# Altium footprint library INTAN_AFE_V003.PcbLib: 77 footprints (part 1 of 5)
Each footprint in its own frame and in the unit in brackets; x right, y up, seen from the top. Pads: shape width x height; smd on the part's side, far side on the other; paste and mask are expansions set on the pad; w line width, h text height; cw(c..) or ccw(c..) is an arc to the next point about the centre after c.
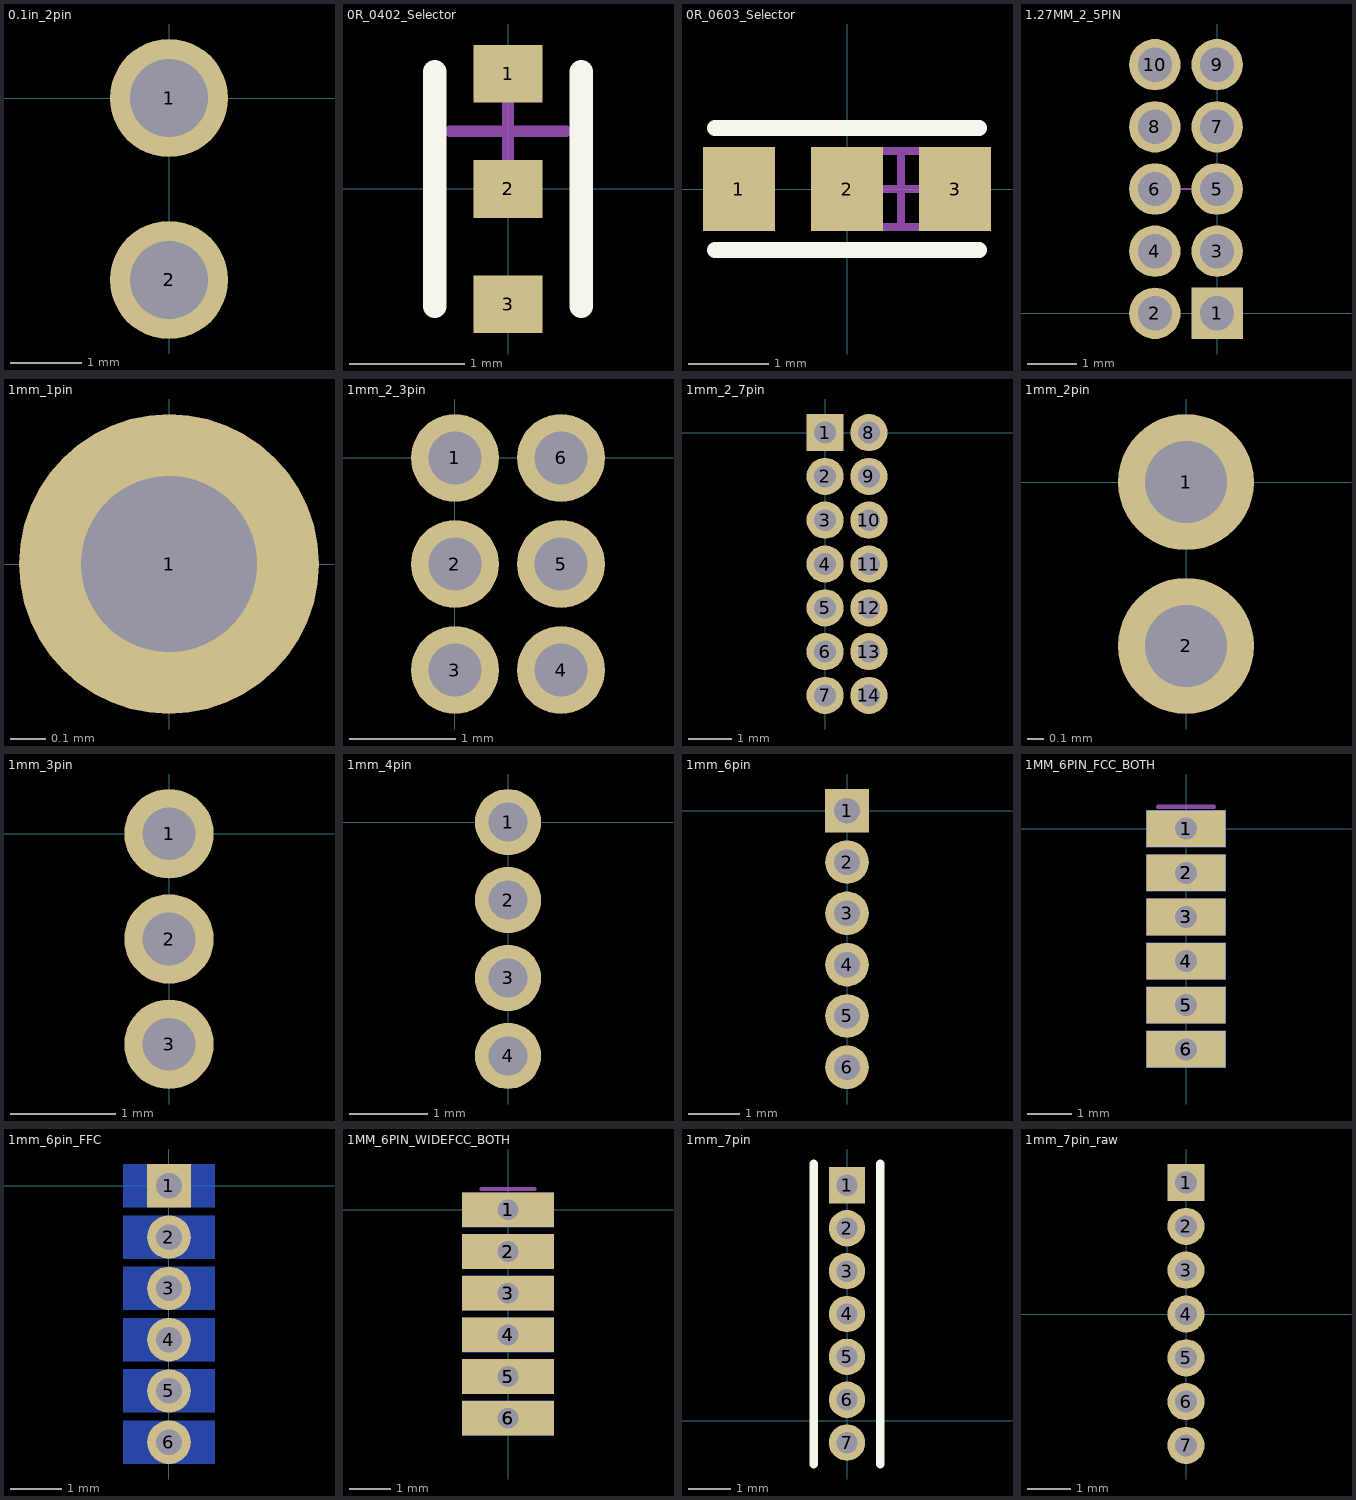
[diagram p0: the footprints below, top view; thin cyan lines are the x and y axes]

## 0.1in_2pin [mil]
pads (2):
  round 65 hole 43: 1(0,0) 2(0,-100)

## 0R_0402_Selector [mm]
pads (3):
  rect 0.6x0.5 smd paste+0 mask+0: 1(0,1) 2(0,0) 3(0,-1)
Top Overlay:
  lines w0.2: -0.635,-1.016 -0.635,1.016 ; 0.635,-1.016 0.635,1.016
Top Assembly:
  text ".Designator" at -0.188,0.5 h1
Top Component Center:
  lines w0.1: -0.5,0.5 0.5,0.5 ; 0,0 0,1
3D body "Res_Stackpole_Electronics_RMCF0402FT1K00_eec.STEP": height 0.25, standoff 0, extent -0.4,-1.358 0.4,0.342

## 0R_0603_Selector [mm]
pads (3):
  rect 0.9x1.05 smd: 1(-1.35,0) 2(0,0) 3(1.35,0)
Top Overlay:
  lines w0.203: -1.651,-0.762 1.651,-0.762 ; -1.651,0.762 1.651,0.762
Top 3D Body:
  lines w0.1: -0.15,-0.475 1.5,-0.475 1.5,0.475 -0.15,0.475 -0.15,-0.475
Top Courtyard:
  lines w0.1: 0.2,0 1.15,0 ; 0.675,-0.475 0.675,0.475
3D body: height 0.5, standoff 0, extent 1.2,-0.475 1.5,0.475
3D body: height 0.5, standoff 0, extent -0.15,-0.475 0.15,0.475
3D body: height 0.5, standoff 0, extent 0.15,-0.475 1.2,0.475

## 1.27MM_2_5PIN [mm]
pads (10):
  rect 1.05x1.05 hole 0.7: 1(0,0)
  round 1.05 hole 0.7: 2(-1.27,0) 3(0,1.27) 4(-1.27,1.27) 5(0,2.54) 6(-1.27,2.54) 7(0,3.81) 8(-1.27,3.81) 9(0,5.08) 10(-1.27,5.08)
Top Courtyard:
  lines w0.05: -1.135,2.54 -0.135,2.54

## 1mm_1pin [mm]
pads (1):
  round 0.85 hole 0.5: 1(0,0)

## 1mm_2_3pin [mm]
pads (6):
  round 0.83 hole 0.5: 1(0,0) 2(0,-1) 3(0,-2) 4(1,-2) 5(1,-1) 6(1,0)

## 1mm_2_7pin [mm]
pads (14):
  rect 0.85x0.85 hole 0.5: 1(0,0)
  round 0.85 hole 0.5: 2(0,-1) 3(0,-2) 4(0,-3) 5(0,-4) 6(0,-5) 7(0,-6) 8(1,0) 9(1,-1) 10(1,-2) 11(1,-3) 12(1,-4) 13(1,-5) 14(1,-6)

## 1mm_2pin [mm]
pads (2):
  round 0.83 hole 0.5: 1(0,0) 2(0,-1)

## 1mm_3pin [mm]
pads (3):
  round 0.85 hole 0.5: 1(0,0) 2(0,-1) 3(0,-2)

## 1mm_4pin [mm]
pads (4):
  round 0.85 hole 0.5: 1(0,0) 2(0,-1) 3(0,-2) 4(0,-3)

## 1mm_6pin [mm]
pads (6):
  rect 0.85x0.85 hole 0.5: 1(0,0)
  round 0.85 hole 0.5: 2(0,-1) 3(0,-2) 4(0,-3) 5(0,-4) 6(0,-5)

## 1MM_6PIN_FCC_BOTH [mm]
pads (18):
  rect 1.8x0.83 smd: 1(0,0) 2(0,-1) 3(0,-2) 4(0,-3) 5(0,-4) 6(0,-5)
  rect 1.8x0.83 smd far side: 1(0,0) 2(0,-1) 3(0,-2) 4(0,-3) 5(0,-4) 6(0,-5)
  rect 0.83x0.83 hole 0.5: 1(0,0)
  round 0.83 hole 0.5: 2(0,-1) 3(0,-2) 4(0,-3) 5(0,-4) 6(0,-5)
Top 3D Body:
  lines w0.1: -0.635,0.5 0.635,0.5

## 1mm_6pin_FFC [mm]
pads (6):
  rect 0.85x0.85 hole 0.5: 1(0,0)
  round 0.85 hole 0.5: 2(0,-1) 3(0,-2) 4(0,-3) 5(0,-4) 6(0,-5)
Bottom Layer:
  rectangle: -0.9,-0.425 0.9,0.426
  rectangle: -0.9,-1.425 0.9,-0.574
  rectangle: -0.9,-2.425 0.9,-1.575
  rectangle: -0.9,-3.425 0.9,-2.575
  rectangle: -0.9,-4.425 0.9,-3.575
  rectangle: -0.9,-5.425 0.9,-4.574

## 1MM_6PIN_WIDEFCC_BOTH [mm]
pads (18):
  rect 0.83x0.83 hole 0.5: 1(0,0)
  rect 2.2x0.83 smd far side: 1(0,0) 2(0,-1) 3(0,-2) 4(0,-3) 5(0,-4) 6(0,-5)
  rect 2.2x0.83 smd: 1(0,0) 2(0,-1) 3(0,-2) 4(0,-3) 5(0,-4) 6(0,-5)
  round 0.83 hole 0.5: 2(0,-1) 3(0,-2) 4(0,-3) 5(0,-4) 6(0,-5)
Top 3D Body:
  lines w0.1: -0.635,0.5 0.635,0.5

## 1mm_7pin [mm]
pads (7):
  rect 0.85x0.85 hole 0.5: 1(0,5.489)
  round 0.85 hole 0.5: 2(0,4.489) 3(0,3.488) 4(0,2.488) 5(0,1.488) 6(0,0.489) 7(0,-0.512)
Top Overlay:
  lines w0.2: -0.775,-1.012 -0.775,5.988 ; 0.775,-1.012 0.775,5.988

## 1mm_7pin_raw [mm]
pads (7):
  rect 0.85x0.85 hole 0.5: 1(0,3)
  round 0.85 hole 0.5: 2(0,2) 3(0,1) 4(0,0) 5(0,-1) 6(0,-2) 7(0,-3)